# EAGLE library part CS5463 (library resonador)
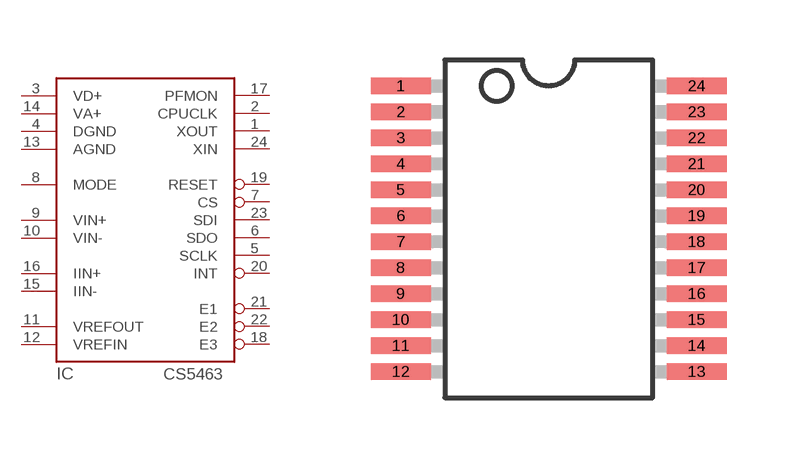
[diagram p0: symbol with the pads of SSOP24; footprint SSOP24]

Designator prefix IC

## CS5463  [SSOP24]
1  XOUT
2  CPUCLK
3  VD+
4  DGND
5  SCLK
6  SDO
7  CS
8  MODE
9  VIN+
10  VIN-
11  VREFOUT
12  VREFIN
13  AGND
14  VA+
15  IIN-
16  IIN+
17  PFMON
18  E3
19  RESET
20  INT
21  E1
22  E2
23  SDI
24  XIN

## Footprint SSOP24 (pad centres in mm)
smd 1.5 x 0.406: 1 -3.7,3.9; 2 -3.7,3.25; 3 -3.7,2.6; 4 -3.7,1.95; 5 -3.7,1.3; 6 -3.7,0.65; 7 -3.7,0; 8 -3.7,-0.65; 9 -3.7,-1.3; 10 -3.7,-1.95; 11 -3.7,-2.6; 12 -3.7,-3.25; 13 3.7,-3.25; 14 3.7,-2.6; 15 3.7,-1.95; 16 3.7,-1.3; 17 3.7,-0.65; 18 3.7,0; 19 3.7,0.65; 20 3.7,1.3; 21 3.7,1.95; 22 3.7,2.6; 23 3.7,3.25; 24 3.7,3.9